# Altium footprint library Chip2512.PcbLib: 1 footprints
Each footprint in its own frame and in the unit in brackets; x right, y up, seen from the top. Pads: shape width x height; smd on the part's side, far side on the other; paste and mask are expansions set on the pad; w line width, h text height; cw(c..) or ccw(c..) is an arc to the next point about the centre after c.
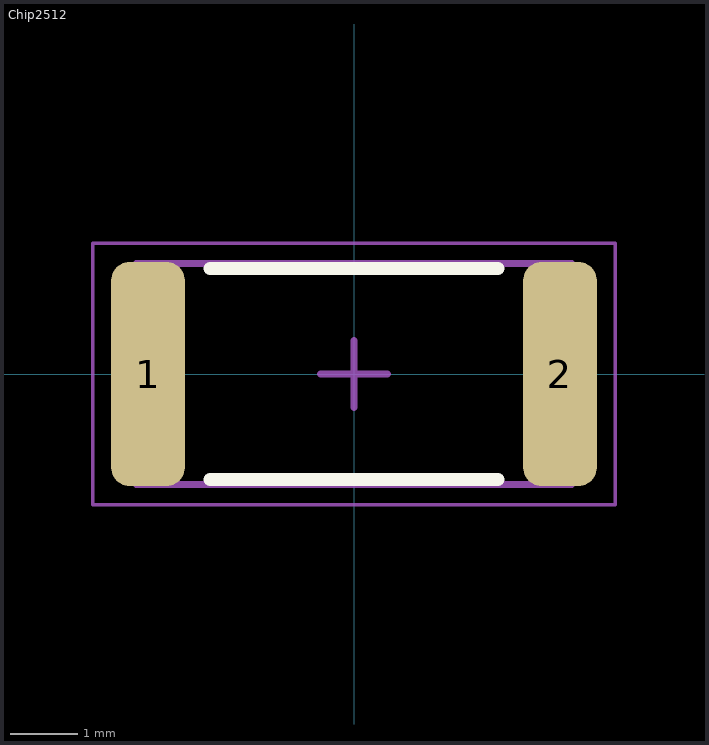
[diagram p0: the footprint, top view; thin cyan lines are the x and y axes]

## Chip2512 [mm] "Chip Resistor, 2-Leads, Body 6.30x3.15mm, IPC Medium Density"
height 0.7
pads (2):
  rrect50% 1.1x3.35 smd: 1(-3.075,0) 2(3.075,0)
Top Overlay:
  lines w0.2: -2.15,-1.575 2.15,-1.575 ; -2.15,1.575 2.15,1.575
Mechanical 13:
  lines w0.1: -3.25,-1.65 -3.25,1.65 3.25,1.65 3.25,-1.65 -3.25,-1.65
Mechanical 15:
  lines w0.05: -3.9,-1.95 -3.9,1.95 3.9,1.95 3.9,-1.95 -3.9,-1.95
  lines w0.1: -0.5,0 0.5,0 ; 0,-0.5 0,0.5
Mechanical 17:
  lines w0.05: -3.9,-1.95 3.9,-1.95 3.9,1.95 -3.9,1.95 -3.9,-1.95
  text ".Designator" at -3.524,-0.623 h1
Mechanical 19:
  lines w0.05: -3.9,-1.95 3.9,-1.95 3.9,1.95 -3.9,1.95 -3.9,-1.95
  text ".Comment" at -3.524,-0.623 h1
3D body: height 0.7, standoff 0, extent -2.75,-1.65 2.75,1.65
3D body: height 0.7, standoff 0, extent -3.25,-1.65 -2.75,1.65
3D body: height 0.7, standoff 0, extent 2.75,-1.65 3.25,1.65